# Altium footprint library Sensor_Pressure.PcbLib: 8 footprints
Each footprint in its own frame and in the unit in brackets; x right, y up, seen from the top. Pads: shape width x height; smd on the part's side, far side on the other; paste and mask are expansions set on the pad; w line width, h text height; cw(c..) or ccw(c..) is an arc to the next point about the centre after c.
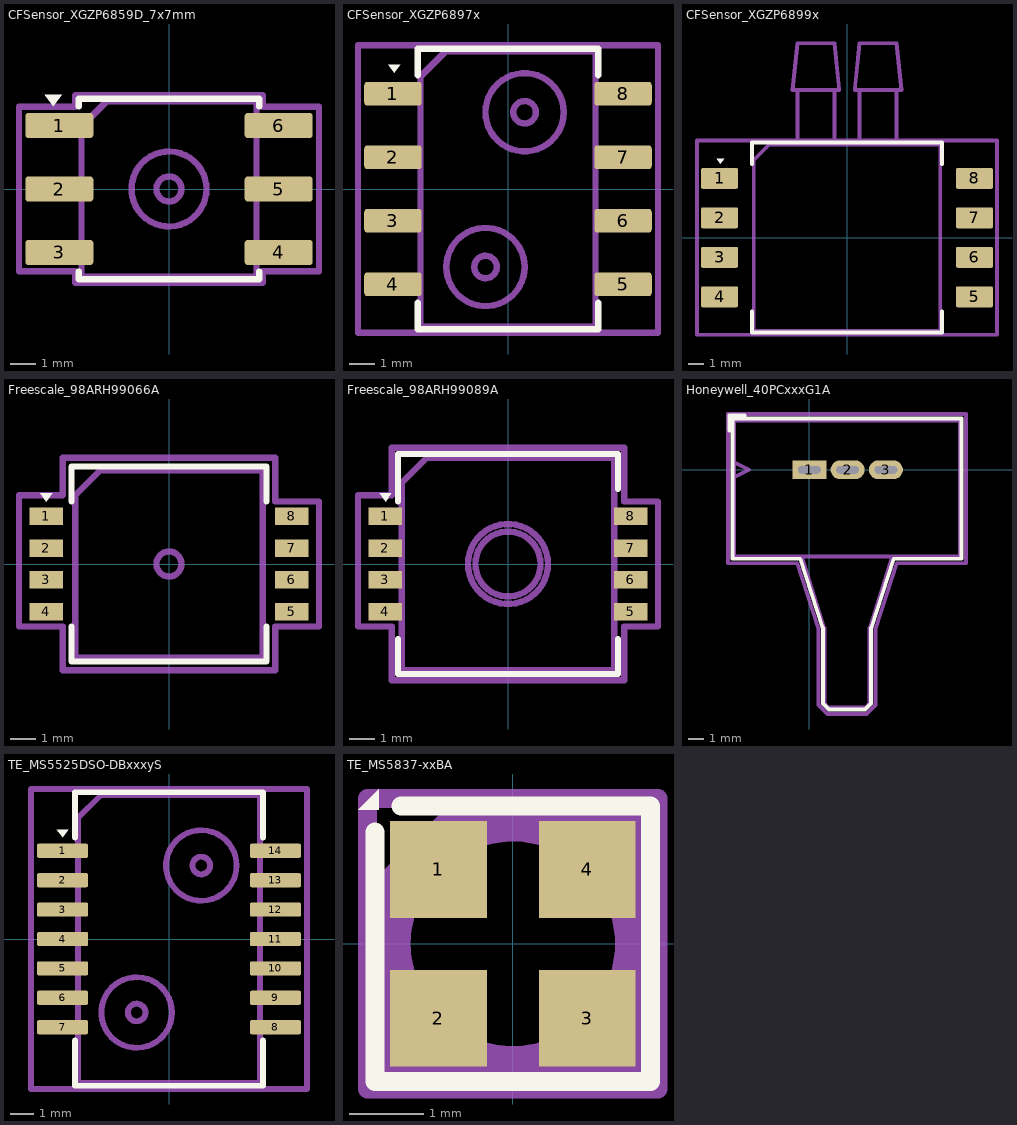
[diagram p0: the footprints below, top view; thin cyan lines are the x and y axes]

## CFSensor_XGZP6859D_7x7mm [mm]
pads (6):
  rrect25% 2.725x1 smd: 1(-4.387,2.54) 2(-4.387,0) 3(-4.387,-2.54) 4(4.387,-2.54) 5(4.387,0) 6(4.387,2.54)
F.SilkS:
  region: -4.625,3.3 -4.965,3.77 -4.285,3.77
  lines w0.254: -3.61,-3.3 -3.61,-3.61 0,-3.61 3.61,-3.61 3.61,-3.3 ; -3.61,3.3 -3.61,3.61 0,3.61 3.61,3.61 3.61,3.3
F.Fab:
  lines w0.254: -3.5,-3.5 -3.5,2.5 -2.5,3.5 3.5,3.5 3.5,-3.5 -3.5,-3.5
  text "'.Designator'" at -4.047,-0.84 h1
F.CrtYd:
  lines w0.254: -6,-3.29 -6,3.29 -3.75,3.29 -3.75,3.75 3.75,3.75 3.75,3.29 6,3.29 6,-3.29 3.75,-3.29 3.75,-3.75 -3.75,-3.75 -3.75,-3.29 -6,-3.29
Cmts.User:
  circle w0.254: c0,0 r0.5
  circle w0.254: c0,0 r1.5

## CFSensor_XGZP6897x [mm]
pads (8):
  rrect25% 2.3x0.95 smd: 1(-4.6,3.81) 2(-4.6,1.27) 3(-4.6,-1.27) 4(-4.6,-3.81) 5(4.6,-3.81) 6(4.6,-1.27) 7(4.6,1.27) 8(4.6,3.81)
F.SilkS:
  region: -4.55,4.65 -4.79,4.98 -4.31,4.98
  lines w0.254: -3.61,-4.545 -3.61,-5.61 0,-5.61 3.61,-5.61 3.61,-4.545 ; -3.61,4.545 -3.61,5.61 0,5.61 3.61,5.61 3.61,4.545
F.Fab:
  circle w0.254: c-0.9,-3.12 r0.45
  circle w0.254: c-0.9,-3.12 r1.565
  circle w0.254: c0.665,3.07 r0.45
  circle w0.254: c0.665,3.07 r1.565
  lines w0.254: -3.5,-5.5 -3.5,4.5 -2.5,5.5 3.5,5.5 3.5,-5.5 -3.5,-5.5
  text "'.Designator'" at -4.047,-0.84 h1
F.CrtYd:
  lines w0.254: -6,-5.75 -6,5.75 6,5.75 6,-5.75 -6,-5.75
Cmts.User:
  text "LP" at -1.492,-4.19 h0.7
  text "2" at -1.253,-2.99 h0.7
  text "HP" at -0.018,2 h0.7
  text "1" at 0.462,3.2 h0.7

## CFSensor_XGZP6899x [mm]
pads (8):
  rrect19% 2.4x1.35 smd: 1(-8.2,3.81) 2(-8.2,1.27) 3(-8.2,-1.27) 4(-8.2,-3.81) 5(8.2,-3.81) 6(8.2,-1.27) 7(8.2,1.27) 8(8.2,3.81)
F.SilkS:
  region: -8.15,4.75 -8.39,5.08 -7.91,5.08
  lines w0.254: -6.11,-4.745 -6.11,-6.11 0,-6.11 6.11,-6.11 6.11,-4.745 ; -6.11,4.745 -6.11,6.11 0,6.11 6.11,6.11 6.11,4.745
F.Fab:
  lines w0.254: -3.185,6 -3.185,9.5 ; -0.815,6 -0.815,9.5 ; 0.815,6 0.815,9.5 ; 3.185,6 3.185,9.5 ; -6,-6 -6,5 -5,6 6,6 6,-6 -6,-6 ; -3.5,9.5 -3.185,12.5 -0.815,12.5 -0.5,9.5 -3.5,9.5 ; 0.5,9.5 0.815,12.5 3.185,12.5 3.5,9.5 0.5,9.5
  text "'.Designator'" at -4.047,-0.84 h1
F.CrtYd:
  lines w0.254: -9.65,-6.25 -9.65,6.25 9.65,6.25 9.65,-6.25 -9.65,-6.25
Cmts.User:
  text "Port 1 (HP)" at 2.653,6.858 h0.7
  text "Port 2 (LP)" at -1.347,6.931 h0.7

## Freescale_98ARH99066A [mm]
pads (8):
  rect 1.35x0.7 smd: 1(-4.915,1.905) 2(-4.915,0.635) 3(-4.915,-0.635) 4(-4.915,-1.905) 5(4.915,-1.905) 6(4.915,-0.635) 7(4.915,0.635) 8(4.915,1.905)
F.SilkS:
  region: -4.91,2.5 -5.15,2.83 -4.67,2.83
  lines w0.254: -3.9,-2.5 -3.9,-3.9 3.9,-3.9 3.9,-2.5 ; -3.9,2.5 -3.9,3.9 3.9,3.9 3.9,2.5
F.Fab:
  circle w0.254: c0,0 r0.5
  lines w0.254: -3.75,-3.75 -3.75,2.75 -2.75,3.75 3.75,3.75 3.75,-3.75 -3.75,-3.75
  text "'.Designator'" at -4.047,1.66 h1
F.CrtYd:
  lines w0.254: -6,-2.5 -6,2.75 -4.25,2.75 -4.25,4.25 4.25,4.25 4.25,2.5 6,2.5 6,-2.5 4.25,-2.5 4.25,-4.25 -4.25,-4.25 -4.25,-2.5 -6,-2.5

## Freescale_98ARH99089A [mm]
pads (8):
  rect 1.35x0.7 smd: 1(-4.915,1.905) 2(-4.915,0.635) 3(-4.915,-0.635) 4(-4.915,-1.905) 5(4.915,-1.905) 6(4.915,-0.635) 7(4.915,0.635) 8(4.915,1.905)
F.SilkS:
  region: -4.9,2.5 -5.14,2.83 -4.66,2.83
  lines w0.254: -4.4,-3 -4.4,-4.4 4.4,-4.4 4.4,-3 ; -4.4,2.5 -4.4,4.4 4.4,4.4 4.4,3
F.Fab:
  circle w0.254: c0,0 r1.3
  circle w0.254: c0,0 r1.6
  lines w0.254: -4.25,-4.25 -4.25,3.25 -3.25,4.25 4.25,4.25 4.25,-4.25 -4.25,-4.25
  text "'.Designator'" at -4.047,1.66 h1
F.CrtYd:
  lines w0.254: -6,-2.5 -6,2.75 -4.65,2.75 -4.65,4.65 4.65,4.65 4.65,2.5 6,2.5 6,-2.5 4.65,-2.5 4.65,-4.65 -4.65,-4.65 -4.65,-2.5 -6,-2.5

## Honeywell_40PCxxxG1A [mm]
pads (3):
  rect 2.25x1.25 hole 0.5 slot 1.5 at 0 deg: 1(0,0)
  rrect100% 2.25x1.25 hole 0.5 slot 1.5 at 0 deg: 2(2.54,0) 3(5.08,0)
F.SilkS:
  lines w0.254: -5.3,2.6 -5.3,3.6 -4.3,3.6 ; -5.1,-5.9 -5.1,3.4 10.1,3.4 10.1,-5.9 5.6,-5.9 4.1,-10.5 4.1,-15.5 3.7,-15.9 1.3,-15.9 0.9,-15.5 0.9,-10.5 -0.6,-5.9 -5.1,-5.9
F.Fab:
  lines w0.254: -5,-0.5 -4,0 -5,0.5 ; -0.5,-5.75 1,-10.5 1,-15.5 1.25,-15.75 3.75,-15.75 4,-15.5 4,-10.5 5.5,-5.75 ; -5,-5.75 -5,3.25 10,3.25 10,0 10,-5.75 -5,-5.75
  text "'.Designator'" at -1.547,-3.34 h1
F.CrtYd:
  lines w0.254: -5.4,-6.2 -5.4,3.7 10.4,3.7 10.4,-6.2 5.8,-6.2 4.4,-10.5 4.4,-15.6 3.8,-16.2 1.2,-16.2 0.6,-15.6 0.6,-10.5 -0.8,-6.2 -5.4,-6.2

## TE_MS5525DSO-DBxxxyS [mil]
pads (14):
  rrect25% 87x24 smd: 1(-181,150) 2(-181,100) 3(-181,50) 4(-181,0) 5(-181,-50) 6(-181,-100) 7(-181,-150) 8(181,-150) 9(181,-100) 10(181,-50) 11(181,0) 12(181,50) 13(181,100) 14(181,150)
F.SilkS:
  region: -181.1,173.23 -190.55,186.22 -171.65,186.22
  lines w10: -159.84,-172.83 -159.84,-249.61 159.84,-249.61 159.84,-172.44 ; -159.84,172.44 -159.84,249.61 159.84,249.61 159.84,172.44
F.Fab:
  circle w10: c-55,-125 r15
  circle w10: c-55,-125 r60
  circle w10: c55,125 r15
  circle w10: c55,125 r60
  lines w10: -155,-245 -155,205.63 -115.63,245 155,245 155,-245 -155,-245
  text "'.Designator'" at -159.32,-33.08 h39.37
F.CrtYd:
  lines w10: -234.65,-255.12 -234.65,255.12 234.65,255.12 234.65,-255.12 -234.65,-255.12
Cmts.User:
  text "Port2" at -98.97,109.25 h23.62
  text "Port1" at 16.09,-140.75 h23.62

## TE_MS5837-xxBA [mm]
pads (4):
  rect 1.3x1.3 smd: 1(-1,1) 2(-1,-1) 3(1,-1) 4(1,1)
F.SilkS:
  region: -1.8,1.8 -2.08,1.8 -1.8,2.08
  lines w0.254: -1.85,1.5 -1.85,-1.85 1.85,-1.85 1.85,1.85 -1.5,1.85
F.Fab:
  circle w0.254: c0,0 r1.5
  lines w0.254: -1.7,-1.7 -1.7,0.85 -0.85,1.7 1.7,1.7 1.7,-1.7 -1.7,-1.7
  text "'.Designator'" at -2.438,-0.514 h0.6
F.CrtYd:
  lines w0.254: -1.95,-1.95 -1.95,1.95 1.95,1.95 1.95,-1.95 -1.95,-1.95